# Altium integrated library LED RGB 5050.IntLib: 1 symbol
Pins are listed as number, name and electrical type; pins without a type are passive.

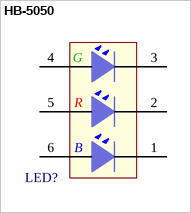
[diagram p0: symbol HB-5050]

## HB-5050
designator LED?  (value not drawn)
LED RGB 5050 SMD; Mfr 1: Galaxy (Asian Electronics); Mfr 1 PN: HB-5050URG B02-S3; Notes: *
footprint 5050 SMD (LED RGB 5050 SMD)
pins: 1 B-, 2 R-, 3 G-, 4 G+, 5 R+, 6 B+
text: G; R; B